# EAGLE library part T6793 (library CICERONE Custom)
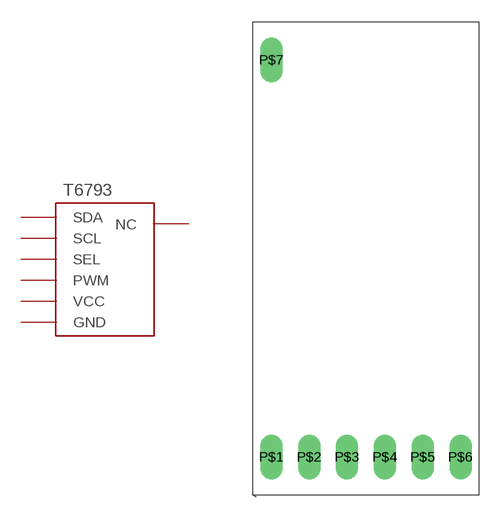
[diagram p0: symbol with the pads of T6793; footprint T6793]

Designator prefix T6793

## T6793  [T6793]
P$1  SDA
P$2  SCL
P$3  VCC  sup
P$4  GND  sup
P$5  PWM
P$6  SEL
P$7  NC  nc

## Footprint T6793 (pad centres in mm)
drill 1 long: P$1 1.27,2.54; P$2 3.81,2.54; P$3 6.35,2.54; P$4 8.89,2.54; P$5 11.43,2.54; P$6 13.97,2.54; P$7 1.27,29.21